# EAGLE library part XC95144XLTQG100 (library xilinx_xc95XXXxl)
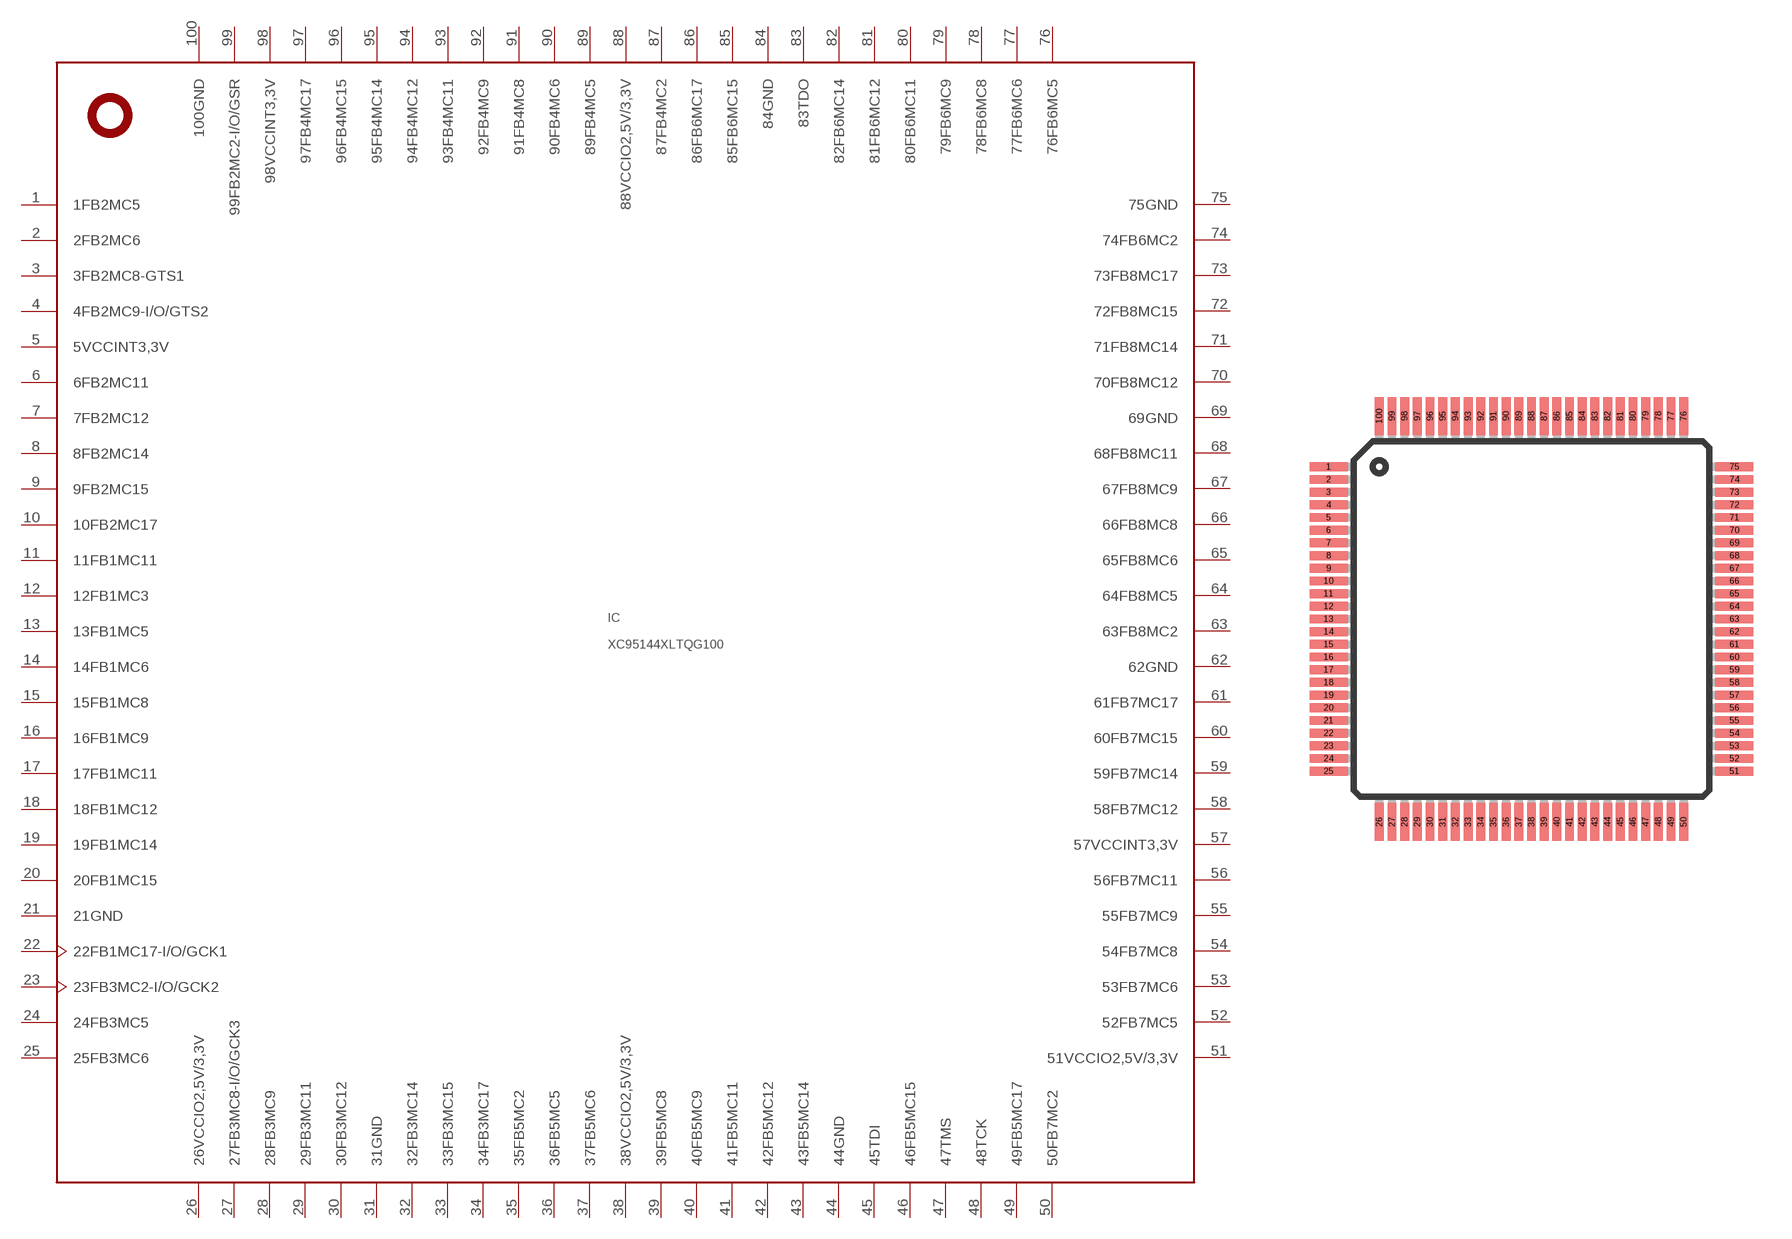
[diagram p2: symbol with the pads of TQFP100; footprint TQFP100]

Designator prefix IC

## XC95144XLTQG100  [TQFP100]
1  1FB2MC5
2  2FB2MC6
3  3FB2MC8-GTS1
4  4FB2MC9-I/O/GTS2
5  5VCCINT3,3V  pwr
6  6FB2MC11
7  7FB2MC12
8  8FB2MC14
9  9FB2MC15
10  10FB2MC17
11  11FB1MC11
12  12FB1MC3
13  13FB1MC5
14  14FB1MC6
15  15FB1MC8
16  16FB1MC9
17  17FB1MC11
18  18FB1MC12
19  19FB1MC14
20  20FB1MC15
21  21GND  sup
22  22FB1MC17-I/O/GCK1
23  23FB3MC2-I/O/GCK2
24  24FB3MC5
25  25FB3MC6
26  26VCCIO2,5V/3,3V  pwr
27  27FB3MC8-I/O/GCK3
28  28FB3MC9
29  29FB3MC11
30  30FB3MC12
31  31GND  sup
32  32FB3MC14
33  33FB3MC15
34  34FB3MC17
35  35FB5MC2
36  36FB5MC5
37  37FB5MC6
38  38VCCIO2,5V/3,3V  pwr
39  39FB5MC8
40  40FB5MC9
41  41FB5MC11
42  42FB5MC12
43  43FB5MC14
44  44GND  sup
45  45TDI
46  46FB5MC15
47  47TMS
48  48TCK
49  49FB5MC17
50  50FB7MC2
51  51VCCIO2,5V/3,3V  pwr
52  52FB7MC5
53  53FB7MC6
54  54FB7MC8
55  55FB7MC9
56  56FB7MC11
57  57VCCINT3,3V  pwr
58  58FB7MC12
59  59FB7MC14
60  60FB7MC15
61  61FB7MC17
62  62GND  sup
63  63FB8MC2
64  64FB8MC5
65  65FB8MC6
66  66FB8MC8
67  67FB8MC9
68  68FB8MC11
69  69GND  sup
70  70FB8MC12
71  71FB8MC14
72  72FB8MC15
73  73FB8MC17
74  74FB6MC2
75  75GND  sup
76  76FB6MC5
77  77FB6MC6
78  78FB6MC8
79  79FB6MC9
80  80FB6MC11
81  81FB6MC12
82  82FB6MC14
83  83TDO
84  84GND  sup
85  85FB6MC15
86  86FB6MC17
87  87FB4MC2
88  88VCCIO2,5V/3,3V  pwr
89  89FB4MC5
90  90FB4MC6
91  91FB4MC8
92  92FB4MC9
93  93FB4MC11
94  94FB4MC12
95  95FB4MC14
96  96FB4MC15
97  97FB4MC17
98  98VCCINT3,3V
99  99FB2MC2-I/O/GSR
100  100GND  sup

## Footprint TQFP100 (pad centres in mm)
smd 1.5 x 0.35: 1 -8,6; 2 -8,5.5; 3 -8,5; 4 -8,4.5; 5 -8,4; 6 -8,3.5; 7 -8,3; 8 -8,2.5; 9 -8,2; 10 -8,1.5; 11 -8,1; 12 -8,0.5; 13 -8,0; 14 -8,-0.5; 15 -8,-1; 16 -8,-1.5; 17 -8,-2; 18 -8,-2.5; 19 -8,-3; 20 -8,-3.5; 21 -8,-4; 22 -8,-4.5; 23 -8,-5; 24 -8,-5.5; 25 -8,-6; 51 8,-6; 52 8,-5.5; 53 8,-5; 54 8,-4.5; 55 8,-4; 56 8,-3.5; 57 8,-3; 58 8,-2.5; 59 8,-2; 60 8,-1.5; 61 8,-1; 62 8,-0.5; 63 8,0; 64 8,0.5; 65 8,1; 66 8,1.5; 67 8,2; 68 8,2.5; 69 8,3; 70 8,3.5; 71 8,4; 72 8,4.5; 73 8,5; 74 8,5.5; 75 8,6
smd 0.35 x 1.5: 26 -6,-8; 27 -5.5,-8; 28 -5,-8; 29 -4.5,-8; 30 -4,-8; 31 -3.5,-8; 32 -3,-8; 33 -2.5,-8; 34 -2,-8; 35 -1.5,-8; 36 -1,-8; 37 -0.5,-8; 38 0,-8; 39 0.5,-8; 40 1,-8; 41 1.5,-8; 42 2,-8; 43 2.5,-8; 44 3,-8; 45 3.5,-8; 46 4,-8; 47 4.5,-8; 48 5,-8; 49 5.5,-8; 50 6,-8; 76 6,8; 77 5.5,8; 78 5,8; 79 4.5,8; 80 4,8; 81 3.5,8; 82 3,8; 83 2.5,8; 84 2,8; 85 1.5,8; 86 1,8; 87 0.5,8; 88 0,8; 89 -0.5,8; 90 -1,8; 91 -1.5,8; 92 -2,8; 93 -2.5,8; 94 -3,8; 95 -3.5,8; 96 -4,8; 97 -4.5,8; 98 -5,8; 99 -5.5,8; 100 -6,8